# EAGLE library part NCP382 (library DSDEagleLibrary)
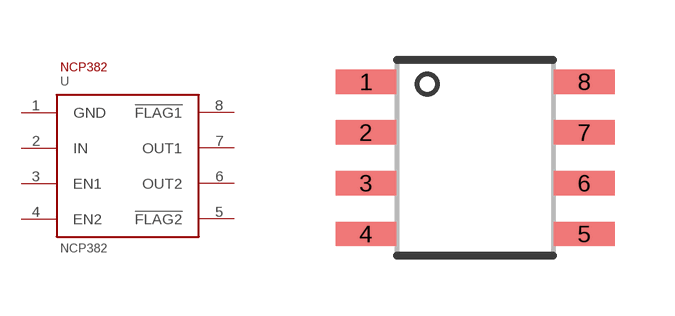
[diagram p45: symbol with the pads of SOIC-8; footprint SOIC-8]

Designator prefix -

## NCP382  [SOIC-8]
1  GND
2  IN
3  EN1
4  EN2
5  !FLAG2
6  OUT2
7  OUT1
8  !FLAG1

## Footprint SOIC-8 (pad centres in mm)
smd 1.524 x 0.61: 1 -2.68,1.855; 2 -2.68,0.585; 3 -2.68,-0.685; 4 -2.68,-1.955; 5 2.78,-1.955; 6 2.78,-0.685; 7 2.78,0.585; 8 2.78,1.855